# EAGLE library part MK3DS1/8-3,81 (library untitled)
24-polige, dreistckige Reihenklemme im Raster 3.81mm Typ Phoenix MK3DS 1/8-3,81, Artikelnummer 1727793
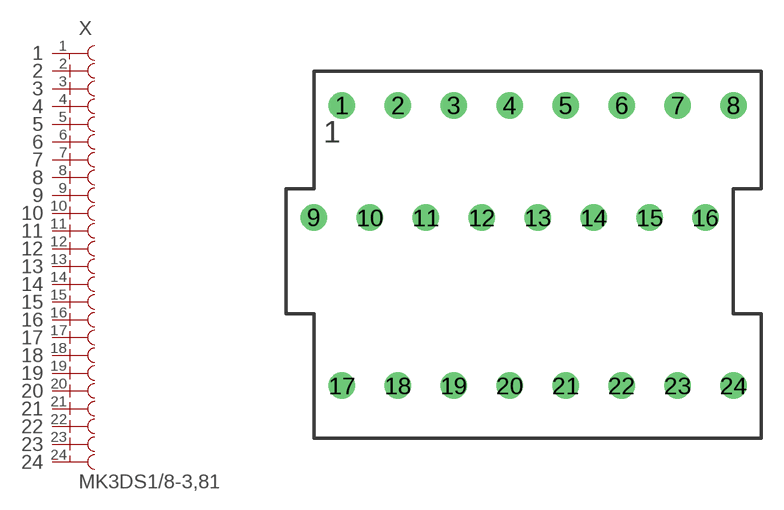
[diagram p6: symbol with the pads of MK3DS1/8; footprint MK3DS1/8]

Designator prefix X

## MK3DS1/8-3,81  [MK3DS1/8]
1  1  pas
2  2  pas
3  3  pas
4  4  pas
5  5  pas
6  6  pas
7  7  pas
8  8  pas
9  9  pas
10  10  pas
11  11  pas
12  12  pas
13  13  pas
14  14  pas
15  15  pas
16  16  pas
17  17  pas
18  18  pas
19  19  pas
20  20  pas
21  21  pas
22  22  pas
23  23  pas
24  24  pas

## Footprint MK3DS1/8 (pad centres in mm)
24-polige, dreistckige Reihenklemme Phoenix MK3DS1/8
drill 1.194 pad 1.778 round: 1 0,19.05; 2 3.81,19.05; 3 7.62,19.05; 4 11.43,19.05; 5 15.24,19.05; 6 19.05,19.05; 7 22.86,19.05; 8 26.67,19.05; 9 -1.905,11.43; 10 1.905,11.43; 11 5.715,11.43; 12 9.525,11.43; 13 13.335,11.43; 14 17.145,11.43; 15 20.955,11.43; 16 24.765,11.43; 17 0,0; 18 3.81,0; 19 7.62,0; 20 11.43,0; 21 15.24,0; 22 19.05,0; 23 22.86,0; 24 26.67,0